# Altium integrated library ERJ-PB6B8201V.IntLib: 1 symbol
Pins are listed as number, name and electrical type; pins without a type are passive.

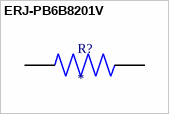
[diagram p0: symbol ERJ-PB6B8201V]

## ERJ-PB6B8201V
designator R?
MP: ERJ-PB6B8201V; Package: None; Price: None; Value: *; Availability: Unavailable
footprint RESC2012X70N
pins: 1, 2